# EAGLE library part W25Q32JVSFIQ (library W25Q32JVSFIQ)
NOR Flash spiFlash, 32M-bit, DTR, 4Kb Uniform Sector Source: Datasheet <http://www.winbond.com/resource-files/w25q32jv revg 03272018 plus.pdf>
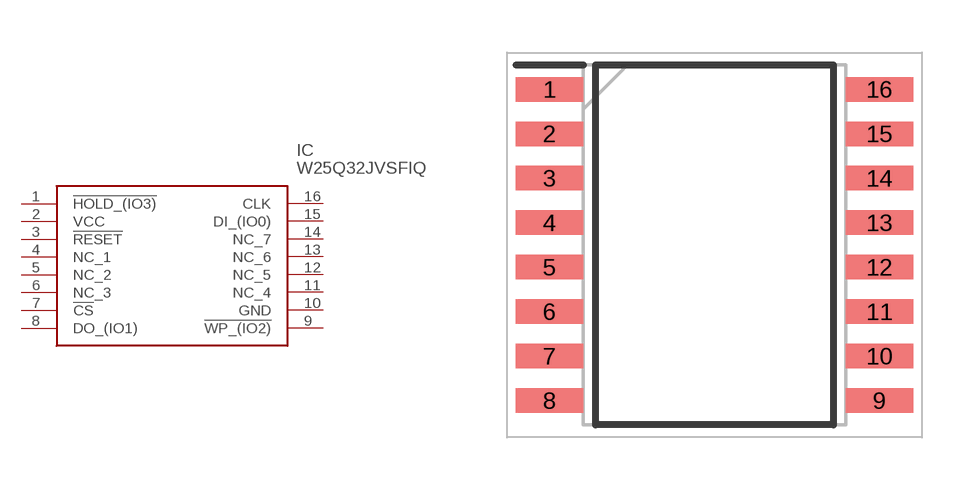
[diagram p0: symbol with the pads of SOIC127P1032X264-16N; footprint SOIC127P1032X264-16N]

Designator prefix IC

## W25Q32JVSFIQ (Arrow_Part_Number: W25Q32JVSFIQ; Arrow_Price-Stock: https://www.arrow.com/en/products/w25q32jvsfiq/winbond-electronics?region=nac; Description: NOR Flash spiFlash, 32M-bit, DTR, 4Kb Uniform Sector; Height: 2.64mm; Manufacturer_Name: Winbond; Manufacturer_Part_Number: W25Q32JVSFIQ; Mouser_Part_Number: 454-W25Q32JVSFIQ; Mouser_Price-Stock: https://www.mouser.co.uk/ProductDetail/Winbond/W25Q32JVSFIQ?qs=qSfuJ%252Bfl%2Fd6wBFdYH4pckg%3D%3D)  [SOIC127P1032X264-16N]
1  !HOLD_(IO3)
2  VCC
3  !RESET
4  NC_1
5  NC_2
6  NC_3
7  !CS
8  DO_(IO1)
9  !WP_(IO2)
10  GND
11  NC_4
12  NC_5
13  NC_6
14  NC_7
15  DI_(IO0)
16  CLK

## Footprint SOIC127P1032X264-16N (pad centres in mm)
16-Pin SOIC--
smd 1.93 x 0.7: 1 -4.71,4.445; 2 -4.71,3.175; 3 -4.71,1.905; 4 -4.71,0.635; 5 -4.71,-0.635; 6 -4.71,-1.905; 7 -4.71,-3.175; 8 -4.71,-4.445; 9 4.71,-4.445; 10 4.71,-3.175; 11 4.71,-1.905; 12 4.71,-0.635; 13 4.71,0.635; 14 4.71,1.905; 15 4.71,3.175; 16 4.71,4.445